# Altium integrated library NSC Communication Interface.IntLib: 1 symbol
Pins are listed as number, name and electrical type; pins without a type are passive.

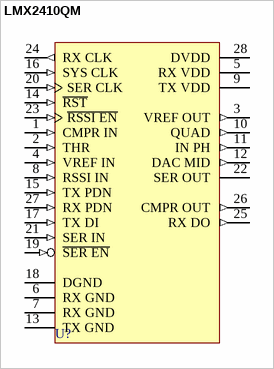
[diagram p0: symbol LMX2410QM]

## LMX2410QM
designator U?
Baseband Processor for Radio Communication; Published: 15-Apr-2002; LatestRevisionDate: 06-Jun-2005; LatestRevisionNote: Stylized 3D Model Added.; DatasheetVersion: Mar-1993; PackageVersion: 2000; PackageReference: MQA28; Publisher: Altium Limited; PackageDescription: SSOP; 28 Leads; Body Width 3.9 mm; Pitch 0.635 mm; ComponentLink1Description: Manufacturer Link; ComponentLink1URL: http://www.national.com/
footprint MQA28 (SSOP; 28 Leads; Body Width 3.9 mm; Pitch 0.635 mm)
3D model MQA28 (SSOP; 28 Leads; Body Width 3.9 mm; Pitch 0.635 mm)
pins: 1 CMPR IN (in), 2 THR (in), 3 VREF OUT (out), 4 VREF IN (in), 5 RX VDD (power), 6 RX GND (power), 7 RX GND (power), 8 RSSI IN (in), 9 TX VDD (power), 10 QUAD (out), 11 IN PH (out), 12 DAC MID (out), 13 TX GND (power), 14 ~{RST} (in), 15 TX PDN (in), 16 SYS CLK (in), 17 TX DI (in), 18 DGND (power), 19 ~{SER EN} (in), 20 SER CLK (in), 21 SER IN (in), 22 SER OUT (hiz), 23 ~{RSSI EN} (in), 24 RX CLK (out), 25 RX DO (out), 26 CMPR OUT (out), 27 RX PDN (in), 28 DVDD (power)